# Altium footprint library KF2EDGK5.08.PcbLib: 29 footprints (part 1 of 2)
Each footprint in its own frame and in the unit in brackets; x right, y up, seen from the top. Pads: shape width x height; smd on the part's side, far side on the other; paste and mask are expansions set on the pad; w line width, h text height; cw(c..) or ccw(c..) is an arc to the next point about the centre after c.
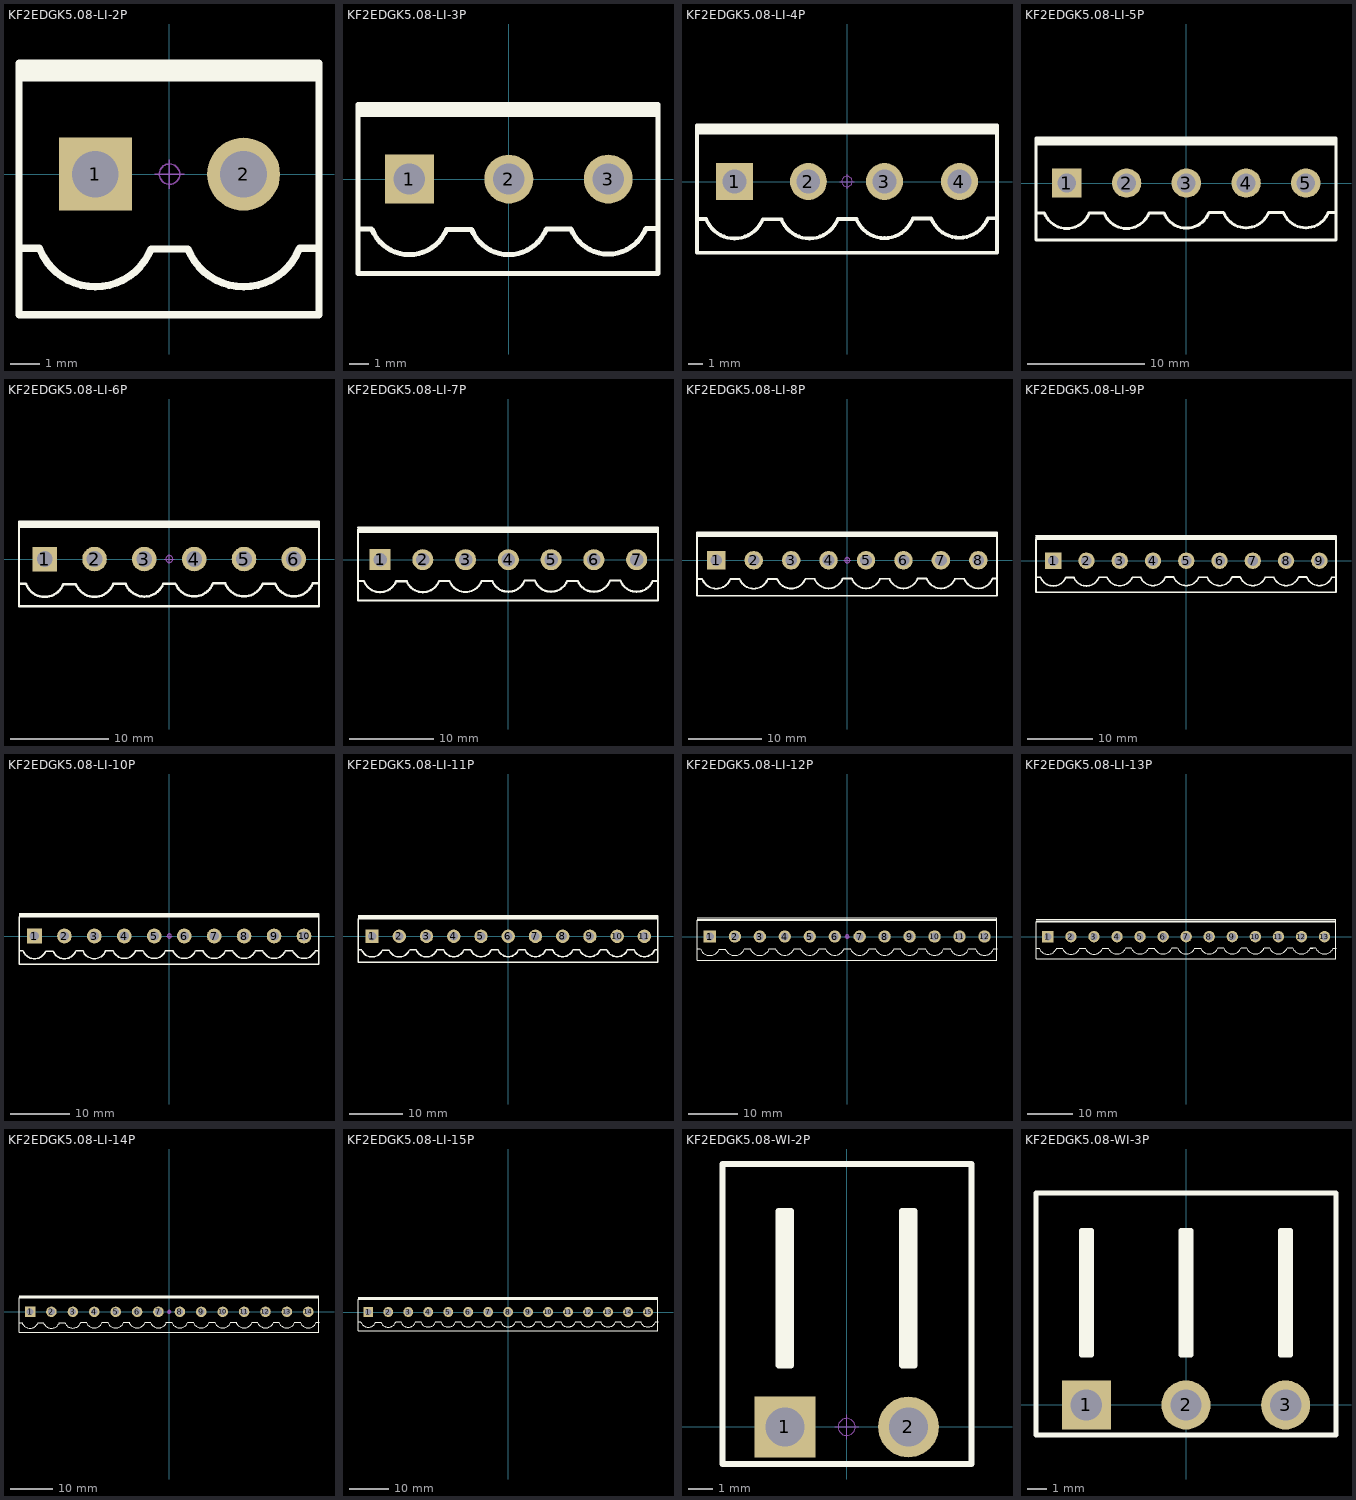
[diagram p0: the footprints below, top view; thin cyan lines are the x and y axes]

## KF2EDGK5.08-LI-2P [mm] "立插端子"
pads (2):
  rect 2.5x2.5 hole 1.6: 1(-2.54,0)
  round 2.5 hole 1.6: 2(2.54,0)
Top Overlay:
  lines w0.254: -5.16,3.302 5.127,3.302 ; -5.16,3.556 5.127,3.556 ; -5.08,-2.54 -4.47,-2.54 ; -4.445,-2.565 ccw(c-2.54,-1.812) -0.635,-2.565 0,-2.565 0.635,-2.565 ccw(c2.54,-1.812) 4.445,-2.565 ; 4.47,-2.54 5.08,-2.54 ; -5.16,-4.826 -5.16,3.81 5.127,3.81 5.127,-4.826 -5.16,-4.826
Mechanical 15:
  circle w0.05: c0,0 r0.35
  lines w0.05: -0.5,0 0.5,0 ; 0,-0.5 0,0.5
3D body "KF2EDGK-1P.STEP": height 11.25, standoff -2.95, extent -5.08,-4.75 0,3.75
3D body "KF2EDGK-1P.STEP": height 11.25, standoff -2.95, extent 0,-4.75 5.08,3.75

## KF2EDGK5.08-LI-3P [mm] "立插端子"
pads (3):
  rect 2.5x2.5 hole 1.6: 1(-5.08,0)
  round 2.5 hole 1.6: 2(0,0) 3(5.08,0)
Top Overlay:
  lines w0.254: -7.7,3.302 7.62,3.302 ; -7.7,3.556 7.62,3.556 ; -7.62,-2.54 -7.01,-2.54 ; -6.985,-2.565 ccw(c-5.08,-1.812) -3.175,-2.565 -2.54,-2.565 -1.905,-2.565 ccw(c0,-1.812) 1.905,-2.565 ; 1.93,-2.54 2.54,-2.54 3.175,-2.54 ccw(c5.08,-1.787) 6.985,-2.54 ; 7.01,-2.515 7.62,-2.515 ; -7.7,-4.826 -7.7,3.81 7.62,3.81 7.62,-4.826 -7.7,-4.826
Mechanical 15:
  circle w0.05: c0,0 r0.35
  lines w0.05: -0.5,0 0.5,0 ; 0,-0.5 0,0.5
3D body "KF2EDGK-1P.STEP": height 11.25, standoff -2.95, extent 2.54,-4.75 7.62,3.75
3D body "KF2EDGK-1P.STEP": height 11.25, standoff -2.95, extent -2.54,-4.75 2.54,3.75
3D body "KF2EDGK-1P.STEP": height 11.25, standoff -2.95, extent -7.62,-4.75 -2.54,3.75

## KF2EDGK5.08-LI-4P [mm] "立插端子"
pads (4):
  rect 2.5x2.5 hole 1.6: 1(-7.62,0)
  round 2.5 hole 1.6: 2(-2.62,0) 3(2.54,0) 4(7.62,0)
Top Overlay:
  lines w0.254: -10.16,-2.54 -9.55,-2.54 ; -10.16,3.302 10.16,3.302 ; -10.135,3.556 10.16,3.556 ; -9.525,-2.565 ccw(c-7.62,-1.812) -5.715,-2.565 -5.08,-2.565 -4.445,-2.565 ccw(c-2.54,-1.812) -0.635,-2.565 ; -0.61,-2.54 0,-2.54 0.635,-2.54 ccw(c2.54,-1.787) 4.445,-2.54 ; 4.47,-2.515 5.08,-2.515 5.715,-2.515 ccw(c7.62,-1.762) 9.525,-2.515 ; 9.55,-2.489 10.16,-2.489 ; -10.16,-4.826 -10.16,3.81 10.16,3.81 10.16,-4.826 -10.16,-4.826
Mechanical 15:
  circle w0.05: c0,0 r0.35
  lines w0.05: -0.5,0 0.5,0 ; 0,-0.5 0,0.5
3D body "KF2EDGK-1P.STEP": height 11.25, standoff -2.95, extent 5.08,-4.75 10.16,3.75
3D body "KF2EDGK-1P.STEP": height 11.25, standoff -2.95, extent 0,-4.75 5.08,3.75
3D body "KF2EDGK-1P.STEP": height 11.25, standoff -2.95, extent -5.08,-4.75 0,3.75
3D body "KF2EDGK-1P.STEP": height 11.25, standoff -2.95, extent -10.16,-4.75 -5.08,3.75

## KF2EDGK5.08-LI-5P [mm] "立插端子"
pads (5):
  rect 2.5x2.5 hole 1.6: 1(-10.16,0)
  round 2.5 hole 1.6: 2(-5.08,0) 3(0,0) 4(5.08,0) 5(10.16,0)
Top Overlay:
  lines w0.254: -12.78,3.302 12.725,3.302 ; -12.78,3.556 12.725,3.556 ; -12.7,-2.54 -12.09,-2.54 ; -12.065,-2.565 ccw(c-10.16,-1.812) -8.255,-2.565 -7.62,-2.565 -6.985,-2.565 ccw(c-5.08,-1.812) -3.175,-2.565 ; -3.15,-2.54 -2.54,-2.54 -1.905,-2.54 ccw(c0,-1.787) 1.905,-2.54 ; 1.93,-2.515 2.54,-2.515 3.175,-2.515 ccw(c5.08,-1.762) 6.985,-2.515 ; 7.01,-2.489 7.62,-2.489 8.23,-2.489 ; 8.255,-2.515 ccw(c10.16,-1.762) 12.065,-2.515 12.7,-2.515 ; -12.78,-4.826 12.725,-4.826 12.725,3.81 -12.78,3.81 -12.78,-4.826
Mechanical 15:
  circle w0.05: c0,0 r0.35
  lines w0.05: -0.5,0 0.5,0 ; 0,-0.5 0,0.5
3D body "KF2EDGK-1P.STEP": height 11.25, standoff -2.95, extent 7.62,-4.75 12.7,3.75
3D body "KF2EDGK-1P.STEP": height 11.25, standoff -2.95, extent 2.54,-4.75 7.62,3.75
3D body "KF2EDGK-1P.STEP": height 11.25, standoff -2.95, extent -2.54,-4.75 2.54,3.75
3D body "KF2EDGK-1P.STEP": height 11.25, standoff -2.95, extent -7.62,-4.75 -2.54,3.75
3D body "KF2EDGK-1P.STEP": height 11.25, standoff -2.95, extent -12.7,-4.75 -7.62,3.75

## KF2EDGK5.08-LI-6P [mm] "立插端子"
pads (6):
  rect 2.5x2.5 hole 1.6: 1(-12.7,0)
  round 2.5 hole 1.6: 2(-7.62,0) 3(-2.54,0) 4(2.54,0) 5(7.62,0) 6(12.7,0)
Top Overlay:
  lines w0.254: -15.32,3.302 15.265,3.302 ; -15.32,3.556 15.265,3.556 ; -15.24,-2.54 -14.63,-2.54 ; -14.605,-2.565 ccw(c-12.7,-1.812) -10.795,-2.565 -10.16,-2.565 -9.525,-2.565 ccw(c-7.62,-1.812) -5.715,-2.565 ; -5.69,-2.54 -5.08,-2.54 -4.445,-2.54 ccw(c-2.54,-1.787) -0.635,-2.54 ; -0.61,-2.515 0,-2.515 0.635,-2.515 ccw(c2.54,-1.762) 4.445,-2.515 ; 4.47,-2.489 5.08,-2.489 5.69,-2.489 ; 5.715,-2.515 ccw(c7.62,-1.762) 9.525,-2.515 10.16,-2.515 10.795,-2.515 ccw(c12.7,-1.762) 14.605,-2.515 ; 14.63,-2.489 15.24,-2.489 ; -15.32,-4.826 -15.32,3.81 15.265,3.81 15.265,-4.826 -15.32,-4.826
Mechanical 15:
  circle w0.05: c0,0 r0.35
  lines w0.05: -0.5,0 0.5,0 ; 0,-0.5 0,0.5
3D body "KF2EDGK-1P.STEP": height 11.25, standoff -2.95, extent 10.16,-4.75 15.24,3.75
3D body "KF2EDGK-1P.STEP": height 11.25, standoff -2.95, extent 5.08,-4.75 10.16,3.75
3D body "KF2EDGK-1P.STEP": height 11.25, standoff -2.95, extent 0,-4.75 5.08,3.75
3D body "KF2EDGK-1P.STEP": height 11.25, standoff -2.95, extent -5.08,-4.75 0,3.75
3D body "KF2EDGK-1P.STEP": height 11.25, standoff -2.95, extent -10.16,-4.75 -5.08,3.75
3D body "KF2EDGK-1P.STEP": height 11.25, standoff -2.95, extent -15.24,-4.75 -10.16,3.75

## KF2EDGK5.08-LI-7P [mm] "立插端子"
pads (7):
  rect 2.5x2.5 hole 1.6: 1(-15.24,0)
  round 2.5 hole 1.6: 2(-10.16,0) 3(-5.08,0) 4(0,0) 5(5.08,0) 6(10.16,0) 7(15.24,0)
Top Overlay:
  lines w0.254: -17.86,3.302 17.78,3.302 ; -17.86,3.81 17.78,3.81 17.78,-4.826 -17.86,-4.826 -17.86,3.556 17.78,3.556 ; -17.78,-2.54 -17.17,-2.54 ; -17.145,-2.565 ccw(c-15.24,-1.812) -13.335,-2.565 -12.7,-2.565 -12.065,-2.565 ccw(c-10.16,-1.812) -8.255,-2.565 ; -8.23,-2.54 -7.62,-2.54 -6.985,-2.54 ccw(c-5.08,-1.787) -3.175,-2.54 ; -3.15,-2.515 -2.54,-2.515 -1.905,-2.515 ccw(c0,-1.762) 1.905,-2.515 ; 1.93,-2.489 2.54,-2.489 3.15,-2.489 ; 3.175,-2.515 ccw(c5.08,-1.762) 6.985,-2.515 7.62,-2.515 8.255,-2.515 ccw(c10.16,-1.762) 12.065,-2.515 ; 12.09,-2.489 12.7,-2.489 13.31,-2.489 ; 13.335,-2.515 ccw(c15.24,-1.762) 17.145,-2.515 17.78,-2.515
Mechanical 15:
  circle w0.05: c0,0 r0.35
  lines w0.05: -0.5,0 0.5,0 ; 0,-0.5 0,0.5
3D body "KF2EDGK-1P.STEP": height 11.25, standoff -2.95, extent 12.7,-4.75 17.78,3.75
3D body "KF2EDGK-1P.STEP": height 11.25, standoff -2.95, extent 7.62,-4.75 12.7,3.75
3D body "KF2EDGK-1P.STEP": height 11.25, standoff -2.95, extent 2.54,-4.75 7.62,3.75
3D body "KF2EDGK-1P.STEP": height 11.25, standoff -2.95, extent -2.54,-4.75 2.54,3.75
3D body "KF2EDGK-1P.STEP": height 11.25, standoff -2.95, extent -12.7,-4.75 -7.62,3.75
3D body "KF2EDGK-1P.STEP": height 11.25, standoff -2.95, extent -7.62,-4.75 -2.54,3.75
3D body "KF2EDGK-1P.STEP": height 11.25, standoff -2.95, extent -17.78,-4.75 -12.7,3.75

## KF2EDGK5.08-LI-8P [mm] "立插端子"
pads (8):
  rect 2.5x2.5 hole 1.6: 1(-17.78,0)
  round 2.5 hole 1.6: 2(-12.7,0) 3(-7.62,0) 4(-2.54,0) 5(2.54,0) 6(7.62,0) 7(12.7,0) 8(17.78,0)
Top Overlay:
  lines w0.254: -20.4,3.302 20.32,3.302 ; -20.4,3.556 20.32,3.556 ; -20.32,-2.54 -19.71,-2.54 ; -19.685,-2.565 ccw(c-17.78,-1.812) -15.875,-2.565 -15.24,-2.565 -14.605,-2.565 ccw(c-12.7,-1.812) -10.795,-2.565 ; -10.77,-2.54 -10.16,-2.54 -9.525,-2.54 ccw(c-7.62,-1.787) -5.715,-2.54 ; -5.69,-2.515 -5.08,-2.515 -4.445,-2.515 ccw(c-2.54,-1.762) -0.635,-2.515 ; -0.61,-2.489 0,-2.489 0.61,-2.489 ; 0.635,-2.515 ccw(c2.54,-1.762) 4.445,-2.515 5.08,-2.515 5.715,-2.515 ccw(c7.62,-1.762) 9.525,-2.515 ; 9.55,-2.489 10.16,-2.489 10.77,-2.489 ; 10.795,-2.515 ccw(c12.7,-1.762) 14.605,-2.515 15.24,-2.515 15.875,-2.515 ccw(c17.78,-1.762) 19.685,-2.515 ; 19.71,-2.489 20.32,-2.489 ; -20.4,-4.826 -20.4,3.81 20.32,3.81 20.32,-4.826 -20.4,-4.826
Mechanical 15:
  circle w0.05: c0,0 r0.35
  lines w0.05: -0.5,0 0.5,0 ; 0,-0.5 0,0.5
3D body "KF2EDGK-1P.STEP": height 11.25, standoff -2.95, extent -20.32,-4.75 -15.24,3.75
3D body "KF2EDGK-1P.STEP": height 11.25, standoff -2.95, extent -15.24,-4.75 -10.16,3.75
3D body "KF2EDGK-1P.STEP": height 11.25, standoff -2.95, extent -10.16,-4.75 -5.08,3.75
3D body "KF2EDGK-1P.STEP": height 11.25, standoff -2.95, extent -5.08,-4.75 0,3.75
3D body "KF2EDGK-1P.STEP": height 11.25, standoff -2.95, extent 0,-4.75 5.08,3.75
3D body "KF2EDGK-1P.STEP": height 11.25, standoff -2.95, extent 5.08,-4.75 10.16,3.75
3D body "KF2EDGK-1P.STEP": height 11.25, standoff -2.95, extent 10.16,-4.75 15.24,3.75
3D body "KF2EDGK-1P.STEP": height 11.25, standoff -2.95, extent 15.24,-4.75 20.32,3.75

## KF2EDGK5.08-LI-9P [mm] "立插端子"
pads (9):
  rect 2.5x2.5 hole 1.6: 1(-20.32,0)
  round 2.5 hole 1.6: 2(-15.24,0) 3(-10.16,0) 4(-5.08,0) 5(0,0) 6(5.08,0) 7(10.16,0) 8(15.24,0) 9(20.32,0)
Top Overlay:
  lines w0.254: -22.94,3.556 22.809,3.556 ; -22.94,3.81 22.86,3.81 22.86,-4.826 -22.94,-4.826 -22.94,3.302 22.86,3.302 ; -22.86,-2.54 -22.25,-2.54 ; -22.225,-2.565 ccw(c-20.32,-1.812) -18.415,-2.565 -17.78,-2.565 -17.145,-2.565 ccw(c-15.24,-1.812) -13.335,-2.565 ; -13.31,-2.54 -12.7,-2.54 -12.065,-2.54 ccw(c-10.16,-1.787) -8.255,-2.54 ; -8.23,-2.515 -7.62,-2.515 -6.985,-2.515 ccw(c-5.08,-1.762) -3.175,-2.515 ; -3.15,-2.489 -2.54,-2.489 -1.93,-2.489 ; -1.905,-2.515 ccw(c0,-1.762) 1.905,-2.515 2.54,-2.515 3.175,-2.515 ccw(c5.08,-1.762) 6.985,-2.515 ; 7.01,-2.489 7.62,-2.489 8.23,-2.489 ; 8.255,-2.515 ccw(c10.16,-1.762) 12.065,-2.515 12.7,-2.515 13.335,-2.515 ccw(c15.24,-1.762) 17.145,-2.515 ; 17.17,-2.489 17.78,-2.489 18.39,-2.489 ; 18.415,-2.515 ccw(c20.32,-1.762) 22.225,-2.515 22.86,-2.515
Mechanical 15:
  circle w0.05: c0,0 r0.35
  lines w0.05: -0.5,0 0.5,0 ; 0,-0.5 0,0.5
3D body "KF2EDGK-1P.STEP": height 11.25, standoff -2.95, extent -22.86,-4.75 -17.78,3.75
3D body "KF2EDGK-1P.STEP": height 11.25, standoff -2.95, extent -17.78,-4.75 -12.7,3.75
3D body "KF2EDGK-1P.STEP": height 11.25, standoff -2.95, extent -12.7,-4.75 -7.62,3.75
3D body "KF2EDGK-1P.STEP": height 11.25, standoff -2.95, extent -7.62,-4.75 -2.54,3.75
3D body "KF2EDGK-1P.STEP": height 11.25, standoff -2.95, extent -2.54,-4.75 2.54,3.75
3D body "KF2EDGK-1P.STEP": height 11.25, standoff -2.95, extent 2.54,-4.75 7.62,3.75
3D body "KF2EDGK-1P.STEP": height 11.25, standoff -2.95, extent 7.62,-4.75 12.7,3.75
3D body "KF2EDGK-1P.STEP": height 11.25, standoff -2.95, extent 12.7,-4.75 17.78,3.75
3D body "KF2EDGK-1P.STEP": height 11.25, standoff -2.95, extent 17.78,-4.75 22.86,3.75

## KF2EDGK5.08-LI-10P [mm] "立插端子"
pads (10):
  rect 2.5x2.5 hole 1.6: 1(-22.86,0)
  round 2.5 hole 1.6: 2(-17.78,0) 3(-12.7,0) 4(-7.62,0) 5(-2.54,0) 6(2.54,0) 7(7.62,0) 8(12.7,0) 9(17.78,0) 10(22.86,0)
Top Overlay:
  lines w0.254: -25.48,3.556 20.269,3.556 25.4,3.556 ; -25.48,3.81 20.32,3.81 25.34,3.81 ; -25.4,-2.54 -24.79,-2.54 ; -24.765,-2.565 ccw(c-22.86,-1.812) -20.955,-2.565 -20.32,-2.565 -19.685,-2.565 ccw(c-17.78,-1.812) -15.875,-2.565 ; -15.85,-2.54 -15.24,-2.54 -14.605,-2.54 ccw(c-12.7,-1.787) -10.795,-2.54 ; -10.77,-2.515 -10.16,-2.515 -9.525,-2.515 ccw(c-7.62,-1.762) -5.715,-2.515 ; -5.69,-2.489 -5.08,-2.489 -4.47,-2.489 ; -4.445,-2.515 ccw(c-2.54,-1.762) -0.635,-2.515 0,-2.515 0.635,-2.515 ccw(c2.54,-1.762) 4.445,-2.515 ; 4.47,-2.489 5.08,-2.489 5.69,-2.489 ; 5.715,-2.515 ccw(c7.62,-1.762) 9.525,-2.515 10.16,-2.515 10.795,-2.515 ccw(c12.7,-1.762) 14.605,-2.515 ; 14.63,-2.489 15.24,-2.489 15.85,-2.489 ; 15.875,-2.515 ccw(c17.78,-1.762) 19.685,-2.515 ; 19.71,-2.489 20.32,-2.489 20.93,-2.489 ; 19.939,-4.826 25.4,-4.826 25.4,3.81 ; 20.32,-4.826 -25.48,-4.826 -25.48,3.302 20.32,3.302 25.4,3.302 ; 20.955,-2.515 ccw(c22.86,-1.762) 24.765,-2.515 25.4,-2.515
Mechanical 15:
  circle w0.05: c0,0 r0.35
  lines w0.05: -0.5,0 0.5,0 ; 0,-0.5 0,0.5
3D body "KF2EDGK-1P.STEP": height 11.25, standoff -2.95, extent -25.4,-4.75 -20.32,3.75
3D body "KF2EDGK-1P.STEP": height 11.25, standoff -2.95, extent -20.32,-4.75 -15.24,3.75
3D body "KF2EDGK-1P.STEP": height 11.25, standoff -2.95, extent -15.24,-4.75 -10.16,3.75
3D body "KF2EDGK-1P.STEP": height 11.25, standoff -2.95, extent -10.16,-4.75 -5.08,3.75
3D body "KF2EDGK-1P.STEP": height 11.25, standoff -2.95, extent -5.08,-4.75 0,3.75
3D body "KF2EDGK-1P.STEP": height 11.25, standoff -2.95, extent 0,-4.75 5.08,3.75
3D body "KF2EDGK-1P.STEP": height 11.25, standoff -2.95, extent 5.08,-4.75 10.16,3.75
3D body "KF2EDGK-1P.STEP": height 11.25, standoff -2.95, extent 10.16,-4.75 15.24,3.75
3D body "KF2EDGK-1P.STEP": height 11.25, standoff -2.95, extent 15.24,-4.75 20.32,3.75
3D body "KF2EDGK-1P.STEP": height 11.25, standoff -2.95, extent 20.32,-4.75 25.4,3.75

## KF2EDGK5.08-LI-11P [mm] "立插端子"
pads (11):
  rect 2.5x2.5 hole 1.6: 1(-25.4,0)
  round 2.5 hole 1.6: 2(-20.32,0) 3(-15.24,0) 4(-10.16,0) 5(-5.08,0) 6(0,0) 7(5.08,0) 8(10.16,0) 9(15.24,0) 10(20.32,0) 11(25.4,0)
Top Overlay:
  lines w0.254: -28.02,3.556 17.729,3.556 22.86,3.556 ; -28.02,3.81 17.78,3.81 22.8,3.81 ; -27.94,-2.54 -27.33,-2.54 ; -27.305,-2.565 ccw(c-25.4,-1.812) -23.495,-2.565 -22.86,-2.565 -22.225,-2.565 ccw(c-20.32,-1.812) -18.415,-2.565 ; -18.39,-2.54 -17.78,-2.54 -17.145,-2.54 ccw(c-15.24,-1.787) -13.335,-2.54 ; -13.31,-2.515 -12.7,-2.515 -12.065,-2.515 ccw(c-10.16,-1.762) -8.255,-2.515 ; -8.23,-2.489 -7.62,-2.489 -7.01,-2.489 ; -6.985,-2.515 ccw(c-5.08,-1.762) -3.175,-2.515 -2.54,-2.515 -1.905,-2.515 ccw(c0,-1.762) 1.905,-2.515 ; 1.93,-2.489 2.54,-2.489 3.15,-2.489 ; 3.175,-2.515 ccw(c5.08,-1.762) 6.985,-2.515 7.62,-2.515 8.255,-2.515 ccw(c10.16,-1.762) 12.065,-2.515 ; 12.09,-2.489 12.7,-2.489 13.31,-2.489 ; 13.335,-2.515 ccw(c15.24,-1.762) 17.145,-2.515 ; 17.17,-2.489 17.78,-2.489 18.39,-2.489 ; 17.399,-4.826 22.86,-4.826 ; 17.78,-4.826 -28.02,-4.826 -28.02,3.302 17.78,3.302 22.86,3.302 27.94,3.302 ; 18.415,-2.515 ccw(c20.32,-1.762) 22.225,-2.515 22.86,-2.515 ; 22.25,-2.489 22.86,-2.489 23.47,-2.489 ; 22.479,-4.826 27.94,-4.826 27.94,3.81 ; 22.809,3.556 27.94,3.556 ; 22.86,3.81 27.88,3.81 ; 23.495,-2.515 ccw(c25.4,-1.762) 27.305,-2.515 27.94,-2.515
Mechanical 15:
  circle w0.05: c0,0 r0.35
  lines w0.05: -0.5,0 0.5,0 ; 0,-0.5 0,0.5
3D body "KF2EDGK-1P.STEP": height 11.25, standoff -2.95, extent -27.94,-4.75 -22.86,3.75
3D body "KF2EDGK-1P.STEP": height 11.25, standoff -2.95, extent -22.86,-4.75 -17.78,3.75
3D body "KF2EDGK-1P.STEP": height 11.25, standoff -2.95, extent -17.78,-4.75 -12.7,3.75
3D body "KF2EDGK-1P.STEP": height 11.25, standoff -2.95, extent -12.7,-4.75 -7.62,3.75
3D body "KF2EDGK-1P.STEP": height 11.25, standoff -2.95, extent -7.62,-4.75 -2.54,3.75
3D body "KF2EDGK-1P.STEP": height 11.25, standoff -2.95, extent -2.54,-4.75 2.54,3.75
3D body "KF2EDGK-1P.STEP": height 11.25, standoff -2.95, extent 2.54,-4.75 7.62,3.75
3D body "KF2EDGK-1P.STEP": height 11.25, standoff -2.95, extent 7.62,-4.75 12.7,3.75
3D body "KF2EDGK-1P.STEP": height 11.25, standoff -2.95, extent 12.7,-4.75 17.78,3.75
3D body "KF2EDGK-1P.STEP": height 11.25, standoff -2.95, extent 17.78,-4.75 22.86,3.75
3D body "KF2EDGK-1P.STEP": height 11.25, standoff -2.95, extent 22.86,-4.75 27.94,3.75

## KF2EDGK5.08-LI-12P [mm] "立插端子"
pads (12):
  rect 2.5x2.5 hole 1.6: 1(-27.94,0)
  round 2.5 hole 1.6: 2(-22.86,0) 3(-17.78,0) 4(-12.7,0) 5(-7.62,0) 6(-2.54,0) 7(2.54,0) 8(7.62,0) 9(12.7,0) 10(17.78,0) 11(22.86,0) 12(27.94,0)
Top Overlay:
  lines w0.254: -30.56,3.556 15.189,3.556 20.32,3.556 ; -30.56,3.81 15.24,3.81 20.26,3.81 ; -30.48,-2.54 -29.87,-2.54 ; -29.845,-2.565 ccw(c-27.94,-1.812) -26.035,-2.565 -25.4,-2.565 -24.765,-2.565 ccw(c-22.86,-1.812) -20.955,-2.565 ; -20.93,-2.54 -20.32,-2.54 -19.685,-2.54 ccw(c-17.78,-1.787) -15.875,-2.54 ; -15.85,-2.515 -15.24,-2.515 -14.605,-2.515 ccw(c-12.7,-1.762) -10.795,-2.515 ; -10.77,-2.489 -10.16,-2.489 -9.55,-2.489 ; -9.525,-2.515 ccw(c-7.62,-1.762) -5.715,-2.515 -5.08,-2.515 -4.445,-2.515 ccw(c-2.54,-1.762) -0.635,-2.515 ; -0.61,-2.489 0,-2.489 0.61,-2.489 ; 0.635,-2.515 ccw(c2.54,-1.762) 4.445,-2.515 5.08,-2.515 5.715,-2.515 ccw(c7.62,-1.762) 9.525,-2.515 ; 9.55,-2.489 10.16,-2.489 10.77,-2.489 ; 10.795,-2.515 ccw(c12.7,-1.762) 14.605,-2.515 ; 14.63,-2.489 15.24,-2.489 15.85,-2.489 ; 14.859,-4.826 20.32,-4.826 ; 15.24,-4.826 -30.56,-4.826 -30.56,3.302 15.24,3.302 20.32,3.302 25.4,3.302 30.48,3.302 ; 15.875,-2.515 ccw(c17.78,-1.762) 19.685,-2.515 ; 19.71,-2.489 20.32,-2.489 20.93,-2.489 ; 19.939,-4.826 25.4,-4.826 ; 20.269,3.556 25.4,3.556 ; 20.32,3.81 25.34,3.81 ; 20.955,-2.515 ccw(c22.86,-1.762) 24.765,-2.515 ; 24.79,-2.489 25.4,-2.489 26.01,-2.489 ; 25.019,-4.826 30.48,-4.826 30.48,3.81 ; 25.349,3.556 30.48,3.556 ; 25.4,3.81 30.42,3.81 ; 26.035,-2.515 ccw(c27.94,-1.762) 29.845,-2.515 30.48,-2.515
Mechanical 15:
  circle w0.05: c0,0 r0.35
  lines w0.05: -0.5,0 0.5,0 ; 0,-0.5 0,0.5
3D body "KF2EDGK-1P.STEP": height 11.25, standoff -2.95, extent 25.4,-4.75 30.48,3.75
3D body "KF2EDGK-1P.STEP": height 11.25, standoff -2.95, extent 20.32,-4.75 25.4,3.75
3D body "KF2EDGK-1P.STEP": height 11.25, standoff -2.95, extent 15.24,-4.75 20.32,3.75
3D body "KF2EDGK-1P.STEP": height 11.25, standoff -2.95, extent 10.16,-4.75 15.24,3.75
3D body "KF2EDGK-1P.STEP": height 11.25, standoff -2.95, extent 5.08,-4.75 10.16,3.75
3D body "KF2EDGK-1P.STEP": height 11.25, standoff -2.95, extent 0,-4.75 5.08,3.75
3D body "KF2EDGK-1P.STEP": height 11.25, standoff -2.95, extent -5.08,-4.75 0,3.75
3D body "KF2EDGK-1P.STEP": height 11.25, standoff -2.95, extent -10.16,-4.75 -5.08,3.75
3D body "KF2EDGK-1P.STEP": height 11.25, standoff -2.95, extent -15.24,-4.75 -10.16,3.75
3D body "KF2EDGK-1P.STEP": height 11.25, standoff -2.95, extent -20.32,-4.75 -15.24,3.75
3D body "KF2EDGK-1P.STEP": height 11.25, standoff -2.95, extent -25.4,-4.75 -20.32,3.75
3D body "KF2EDGK-1P.STEP": height 11.25, standoff -2.95, extent -30.48,-4.75 -25.4,3.75

## KF2EDGK5.08-LI-13P [mm] "立插端子"
pads (13):
  rect 2.5x2.5 hole 1.6: 1(-30.48,0)
  round 2.5 hole 1.6: 2(-25.4,0) 3(-20.32,0) 4(-15.24,0) 5(-10.16,0) 6(-5.08,0) 7(0,0) 8(5.08,0) 9(10.16,0) 10(15.24,0) 11(20.32,0) 12(25.4,0) 13(30.48,0)
Top Overlay:
  lines w0.254: -33.1,3.556 12.649,3.556 17.78,3.556 ; -33.1,3.81 12.7,3.81 17.72,3.81 ; -33.02,-2.54 -32.41,-2.54 ; -32.385,-2.565 ccw(c-30.48,-1.812) -28.575,-2.565 -27.94,-2.565 -27.305,-2.565 ccw(c-25.4,-1.812) -23.495,-2.565 ; -23.47,-2.54 -22.86,-2.54 -22.225,-2.54 ccw(c-20.32,-1.787) -18.415,-2.54 ; -18.39,-2.515 -17.78,-2.515 -17.145,-2.515 ccw(c-15.24,-1.762) -13.335,-2.515 ; -13.31,-2.489 -12.7,-2.489 -12.09,-2.489 ; -12.065,-2.515 ccw(c-10.16,-1.762) -8.255,-2.515 -7.62,-2.515 -6.985,-2.515 ccw(c-5.08,-1.762) -3.175,-2.515 ; -3.15,-2.489 -2.54,-2.489 -1.93,-2.489 ; -1.905,-2.515 ccw(c0,-1.762) 1.905,-2.515 2.54,-2.515 3.175,-2.515 ccw(c5.08,-1.762) 6.985,-2.515 ; 7.01,-2.489 7.62,-2.489 8.23,-2.489 ; 8.255,-2.515 ccw(c10.16,-1.762) 12.065,-2.515 ; 12.09,-2.489 12.7,-2.489 13.31,-2.489 ; 12.319,-4.826 17.78,-4.826 ; 12.7,-4.826 -33.1,-4.826 -33.1,3.302 12.7,3.302 17.78,3.302 22.86,3.302 27.94,3.302 33.02,3.302 ; 13.335,-2.515 ccw(c15.24,-1.762) 17.145,-2.515 ; 17.17,-2.489 17.78,-2.489 18.39,-2.489 ; 17.399,-4.826 22.86,-4.826 ; 17.729,3.556 22.86,3.556 ; 17.78,3.81 22.8,3.81 ; 18.415,-2.515 ccw(c20.32,-1.762) 22.225,-2.515 ; 22.25,-2.489 22.86,-2.489 23.47,-2.489 ; 22.479,-4.826 27.94,-4.826 ; 22.809,3.556 27.94,3.556 ; 22.86,3.81 27.88,3.81 ; 23.495,-2.515 ccw(c25.4,-1.762) 27.305,-2.515 27.94,-2.515 ; 27.33,-2.489 27.94,-2.489 28.55,-2.489 ; 27.559,-4.826 33.02,-4.826 ; 27.889,3.556 33.02,3.556 ; 27.94,3.81 32.96,3.81 ; 28.575,-2.515 ccw(c30.48,-1.762) 32.385,-2.515 33.02,-2.515 ; 33.02,-4.75 33.02,3.75
Mechanical 15:
  circle w0.05: c0,0 r0.35
  lines w0.05: -0.5,0 0.5,0 ; 0,-0.5 0,0.5
3D body "KF2EDGK-1P.STEP": height 11.25, standoff -2.95, extent -33.02,-4.75 -27.94,3.75
3D body "KF2EDGK-1P.STEP": height 11.25, standoff -2.95, extent -27.94,-4.75 -22.86,3.75
3D body "KF2EDGK-1P.STEP": height 11.25, standoff -2.95, extent -22.86,-4.75 -17.78,3.75
3D body "KF2EDGK-1P.STEP": height 11.25, standoff -2.95, extent -17.78,-4.75 -12.7,3.75
3D body "KF2EDGK-1P.STEP": height 11.25, standoff -2.95, extent -12.7,-4.75 -7.62,3.75
3D body "KF2EDGK-1P.STEP": height 11.25, standoff -2.95, extent -7.62,-4.75 -2.54,3.75
3D body "KF2EDGK-1P.STEP": height 11.25, standoff -2.95, extent -2.54,-4.75 2.54,3.75
3D body "KF2EDGK-1P.STEP": height 11.25, standoff -2.95, extent 2.54,-4.75 7.62,3.75
3D body "KF2EDGK-1P.STEP": height 11.25, standoff -2.95, extent 7.62,-4.75 12.7,3.75
3D body "KF2EDGK-1P.STEP": height 11.25, standoff -2.95, extent 12.7,-4.75 17.78,3.75
3D body "KF2EDGK-1P.STEP": height 11.25, standoff -2.95, extent 17.78,-4.75 22.86,3.75
3D body "KF2EDGK-1P.STEP": height 11.25, standoff -2.95, extent 22.86,-4.75 27.94,3.75
3D body "KF2EDGK-1P.STEP": height 11.25, standoff -2.95, extent 27.94,-4.75 33.02,3.75

## KF2EDGK5.08-LI-14P [mm] "立插端子"
pads (14):
  rect 2.5x2.5 hole 1.6: 1(-33.02,0)
  round 2.5 hole 1.6: 2(-27.94,0) 3(-22.86,0) 4(-17.78,0) 5(-12.7,0) 6(-7.62,0) 7(-2.54,0) 8(2.54,0) 9(7.62,0) 10(12.7,0) 11(17.78,0) 12(22.86,0) 13(27.94,0) 14(33.02,0)
Top Overlay:
  lines w0.254: -35.64,3.556 10.109,3.556 15.24,3.556 ; -35.64,3.81 10.16,3.81 15.18,3.81 ; -35.56,-2.54 -34.95,-2.54 ; -34.925,-2.565 ccw(c-33.02,-1.812) -31.115,-2.565 -30.48,-2.565 -29.845,-2.565 ccw(c-27.94,-1.812) -26.035,-2.565 ; -26.01,-2.54 -25.4,-2.54 -24.765,-2.54 ccw(c-22.86,-1.787) -20.955,-2.54 ; -20.93,-2.515 -20.32,-2.515 -19.685,-2.515 ccw(c-17.78,-1.762) -15.875,-2.515 ; -15.85,-2.489 -15.24,-2.489 -14.63,-2.489 ; -14.605,-2.515 ccw(c-12.7,-1.762) -10.795,-2.515 -10.16,-2.515 -9.525,-2.515 ccw(c-7.62,-1.762) -5.715,-2.515 ; -5.69,-2.489 -5.08,-2.489 -4.47,-2.489 ; -4.445,-2.515 ccw(c-2.54,-1.762) -0.635,-2.515 0,-2.515 0.635,-2.515 ccw(c2.54,-1.762) 4.445,-2.515 ; 4.47,-2.489 5.08,-2.489 5.69,-2.489 ; 5.715,-2.515 ccw(c7.62,-1.762) 9.525,-2.515 ; 9.55,-2.489 10.16,-2.489 10.77,-2.489 ; 9.779,-4.826 15.24,-4.826 ; 10.16,-4.826 -35.64,-4.826 -35.64,3.302 10.16,3.302 15.24,3.302 20.32,3.302 25.4,3.302 30.48,3.302 35.56,3.302 ; 10.795,-2.515 ccw(c12.7,-1.762) 14.605,-2.515 ; 14.63,-2.489 15.24,-2.489 15.85,-2.489 ; 14.859,-4.826 20.32,-4.826 ; 15.189,3.556 20.32,3.556 ; 15.24,3.81 20.26,3.81 ; 15.875,-2.515 ccw(c17.78,-1.762) 19.685,-2.515 ; 19.71,-2.489 20.32,-2.489 20.93,-2.489 ; 19.939,-4.826 25.4,-4.826 ; 20.269,3.556 25.4,3.556 ; 20.32,3.81 25.34,3.81 ; 20.955,-2.515 ccw(c22.86,-1.762) 24.765,-2.515 25.4,-2.515 ; 24.79,-2.489 25.4,-2.489 26.01,-2.489 ; 25.019,-4.826 30.48,-4.826 ; 25.349,3.556 30.48,3.556 ; 25.4,3.81 30.42,3.81 ; 26.035,-2.515 ccw(c27.94,-1.762) 29.845,-2.515 ; 29.87,-2.489 30.48,-2.489 31.09,-2.489 ; 30.099,-4.826 35.56,-4.826 ; 30.429,3.556 35.56,3.556 ; 30.48,3.81 35.5,3.81 ; 31.115,-2.515 ccw(c33.02,-1.762) 34.925,-2.515 35.56,-2.515 ; 35.56,-4.75 35.56,3.75 ; 29.845,-2.515 30.48,-2.515 29.845,-2.515
Mechanical 15:
  circle w0.05: c0,0 r0.35
  lines w0.05: -0.5,0 0.5,0 ; 0,-0.5 0,0.5
3D body "KF2EDGK-1P.STEP": height 11.25, standoff -2.95, extent 30.48,-4.75 35.56,3.75
3D body "KF2EDGK-1P.STEP": height 11.25, standoff -2.95, extent -35.56,-4.75 -30.48,3.75
3D body "KF2EDGK-1P.STEP": height 11.25, standoff -2.95, extent -30.48,-4.75 -25.4,3.75
3D body "KF2EDGK-1P.STEP": height 11.25, standoff -2.95, extent -25.4,-4.75 -20.32,3.75
3D body "KF2EDGK-1P.STEP": height 11.25, standoff -2.95, extent -20.32,-4.75 -15.24,3.75
3D body "KF2EDGK-1P.STEP": height 11.25, standoff -2.95, extent -15.24,-4.75 -10.16,3.75
3D body "KF2EDGK-1P.STEP": height 11.25, standoff -2.95, extent -10.16,-4.75 -5.08,3.75
3D body "KF2EDGK-1P.STEP": height 11.25, standoff -2.95, extent -5.08,-4.75 0,3.75
3D body "KF2EDGK-1P.STEP": height 11.25, standoff -2.95, extent 0,-4.75 5.08,3.75
3D body "KF2EDGK-1P.STEP": height 11.25, standoff -2.95, extent 5.08,-4.75 10.16,3.75
3D body "KF2EDGK-1P.STEP": height 11.25, standoff -2.95, extent 10.16,-4.75 15.24,3.75
3D body "KF2EDGK-1P.STEP": height 11.25, standoff -2.95, extent 15.24,-4.75 20.32,3.75
3D body "KF2EDGK-1P.STEP": height 11.25, standoff -2.95, extent 20.32,-4.75 25.4,3.75
3D body "KF2EDGK-1P.STEP": height 11.25, standoff -2.95, extent 25.4,-4.75 30.48,3.75

## KF2EDGK5.08-LI-15P [mm] "立插端子"
pads (15):
  rect 2.5x2.5 hole 1.6: 1(-35.56,0)
  round 2.5 hole 1.6: 2(-30.48,0) 3(-25.4,0) 4(-20.32,0) 5(-15.24,0) 6(-10.16,0) 7(-5.08,0) 8(0,0) 9(5.08,0) 10(10.16,0) 11(15.24,0) 12(20.32,0) 13(25.4,0) 14(30.48,0) 15(35.56,0)
Top Overlay:
  lines w0.254: -38.18,3.556 7.569,3.556 12.7,3.556 ; -38.18,3.81 7.62,3.81 12.64,3.81 ; -38.1,-2.54 -37.49,-2.54 ; -37.465,-2.565 ccw(c-35.56,-1.812) -33.655,-2.565 -33.02,-2.565 -32.385,-2.565 ccw(c-30.48,-1.812) -28.575,-2.565 ; -28.55,-2.54 -27.94,-2.54 -27.305,-2.54 ccw(c-25.4,-1.787) -23.495,-2.54 ; -23.47,-2.515 -22.86,-2.515 -22.225,-2.515 ccw(c-20.32,-1.762) -18.415,-2.515 ; -18.39,-2.489 -17.78,-2.489 -17.17,-2.489 ; -17.145,-2.515 ccw(c-15.24,-1.762) -13.335,-2.515 -12.7,-2.515 -12.065,-2.515 ccw(c-10.16,-1.762) -8.255,-2.515 ; -8.23,-2.489 -7.62,-2.489 -7.01,-2.489 ; -6.985,-2.515 ccw(c-5.08,-1.762) -3.175,-2.515 -2.54,-2.515 -1.905,-2.515 ccw(c0,-1.762) 1.905,-2.515 ; 1.93,-2.489 2.54,-2.489 3.15,-2.489 ; 3.175,-2.515 ccw(c5.08,-1.762) 6.985,-2.515 ; 7.01,-2.489 7.62,-2.489 8.23,-2.489 ; 7.239,-4.826 12.7,-4.826 ; 7.62,-4.826 -38.18,-4.826 -38.18,3.302 7.62,3.302 12.7,3.302 17.78,3.302 22.86,3.302 27.94,3.302 33.02,3.302 38.1,3.302 ; 8.255,-2.515 ccw(c10.16,-1.762) 12.065,-2.515 ; 12.09,-2.489 12.7,-2.489 13.31,-2.489 ; 12.319,-4.826 17.78,-4.826 ; 12.649,3.556 17.78,3.556 ; 12.7,3.81 17.72,3.81 ; 13.335,-2.515 ccw(c15.24,-1.762) 17.145,-2.515 ; 17.17,-2.489 17.78,-2.489 18.39,-2.489 ; 17.399,-4.826 22.86,-4.826 ; 17.729,3.556 22.86,3.556 ; 17.78,3.81 22.8,3.81 ; 18.415,-2.515 ccw(c20.32,-1.762) 22.225,-2.515 22.86,-2.515 ; 22.25,-2.489 22.86,-2.489 23.47,-2.489 ; 22.479,-4.826 27.94,-4.826 ; 22.809,3.556 27.94,3.556 ; 22.86,3.81 27.88,3.81 ; 23.495,-2.515 ccw(c25.4,-1.762) 27.305,-2.515 ; 27.33,-2.489 27.94,-2.489 28.55,-2.489 ; 27.559,-4.826 33.02,-4.826 ; 27.889,3.556 33.02,3.556 ; 27.94,3.81 32.96,3.81 ; 28.575,-2.515 ccw(c30.48,-1.762) 32.385,-2.515 ; 32.41,-2.489 33.02,-2.489 33.63,-2.489 ; 32.639,-4.826 38.1,-4.826 ; 32.969,3.556 38.1,3.556 ; 33.02,3.81 38.04,3.81 ; 33.655,-2.515 ccw(c35.56,-1.762) 37.465,-2.515 38.1,-2.515 ; 38.1,-4.75 38.1,3.75 ; 27.305,-2.515 27.94,-2.515 27.305,-2.515 ; 32.385,-2.515 33.02,-2.515 ; 32.385,-2.515 33.02,-2.515 ; 32.385,-2.515 33.02,-2.515
Mechanical 15:
  circle w0.05: c0,0 r0.35
  lines w0.05: -0.5,0 0.5,0 ; 0,-0.5 0,0.5
3D body "KF2EDGK-1P.STEP": height 11.25, standoff -2.95, extent 33.02,-4.75 38.1,3.75
3D body "KF2EDGK-1P.STEP": height 11.25, standoff -2.95, extent 27.94,-4.75 33.02,3.75
3D body "KF2EDGK-1P.STEP": height 11.25, standoff -2.95, extent -38.1,-4.75 -33.02,3.75
3D body "KF2EDGK-1P.STEP": height 11.25, standoff -2.95, extent -33.02,-4.75 -27.94,3.75
3D body "KF2EDGK-1P.STEP": height 11.25, standoff -2.95, extent -27.94,-4.75 -22.86,3.75
3D body "KF2EDGK-1P.STEP": height 11.25, standoff -2.95, extent -22.86,-4.75 -17.78,3.75
3D body "KF2EDGK-1P.STEP": height 11.25, standoff -2.95, extent -17.78,-4.75 -12.7,3.75
3D body "KF2EDGK-1P.STEP": height 11.25, standoff -2.95, extent -12.7,-4.75 -7.62,3.75
3D body "KF2EDGK-1P.STEP": height 11.25, standoff -2.95, extent -7.62,-4.75 -2.54,3.75
3D body "KF2EDGK-1P.STEP": height 11.25, standoff -2.95, extent -2.54,-4.75 2.54,3.75
3D body "KF2EDGK-1P.STEP": height 11.25, standoff -2.95, extent 2.54,-4.75 7.62,3.75
3D body "KF2EDGK-1P.STEP": height 11.25, standoff -2.95, extent 7.62,-4.75 12.7,3.75
3D body "KF2EDGK-1P.STEP": height 11.25, standoff -2.95, extent 12.7,-4.75 17.78,3.75
3D body "KF2EDGK-1P.STEP": height 11.25, standoff -2.95, extent 17.78,-4.75 22.86,3.75
3D body "KF2EDGK-1P.STEP": height 11.25, standoff -2.95, extent 22.86,-4.75 27.94,3.75

## KF2EDGK5.08-WI-2P [mm] "卧插端子"
pads (2):
  rect 2.5x2.5 hole 1.6: 1(-2.54,0)
  round 2.5 hole 1.6: 2(2.54,0)
Top Overlay:
  lines w0.254: -2.54,2.54 -2.54,8.89 ; 2.54,2.54 2.54,8.89 ; -2.54,8.89 -2.286,8.89 -2.286,2.54 -2.794,2.54 -2.794,8.89 -2.54,8.89 ; 2.54,8.89 2.286,8.89 2.286,2.54 2.794,2.54 2.794,8.89 2.54,8.89 ; -5.105,-1.524 5.131,-1.524 5.131,10.82 -5.105,10.82 -5.105,-1.524
Mechanical 15:
  circle w0.05: c0,0 r0.35
  lines w0.05: -0.5,0 0.5,0 ; 0,-0.5 0,0.5
3D body "KF2EDGK-1P_H.STEP": height 8.5, standoff -3, extent 0,-0.5 5.08,10.8
3D body "KF2EDGK-1P_H.STEP": height 8.5, standoff -3, extent -5.08,-0.5 0,10.8

## KF2EDGK5.08-WI-3P [mm] "卧插端子"
pads (3):
  rect 2.5x2.5 hole 1.6: 1(-5.08,0)
  round 2.5 hole 1.6: 2(0,0) 3(5.08,0)
Top Overlay:
  lines w0.254: -5.08,2.54 -5.08,8.89 ; 0,2.54 0,8.89 ; 5.08,2.54 5.08,8.89 ; -5.08,8.89 -4.826,8.89 -4.826,2.54 -5.334,2.54 -5.334,8.89 -5.08,8.89 ; 0,8.89 0.254,8.89 0.254,2.54 -0.254,2.54 -0.254,8.89 0,8.89 ; 5.08,8.89 5.334,8.89 5.334,2.54 4.826,2.54 4.826,8.89 5.08,8.89 ; -7.645,-1.524 7.645,-1.524 7.645,10.795 -7.645,10.795 -7.645,-1.524
Mechanical 15:
  circle w0.05: c0,0 r0.35
  lines w0.05: -0.5,0 0.5,0 ; 0,-0.5 0,0.5
3D body "KF2EDGK-1P_H.STEP": height 8.5, standoff -3, extent -7.62,-0.5 -2.54,10.8
3D body "KF2EDGK-1P_H.STEP": height 8.5, standoff -3, extent -2.54,-0.5 2.54,10.8
3D body "KF2EDGK-1P_H.STEP": height 8.5, standoff -3, extent 2.54,-0.5 7.62,10.8